# EAGLE library part MULTICOMP_460DE08C3 (library microsd)
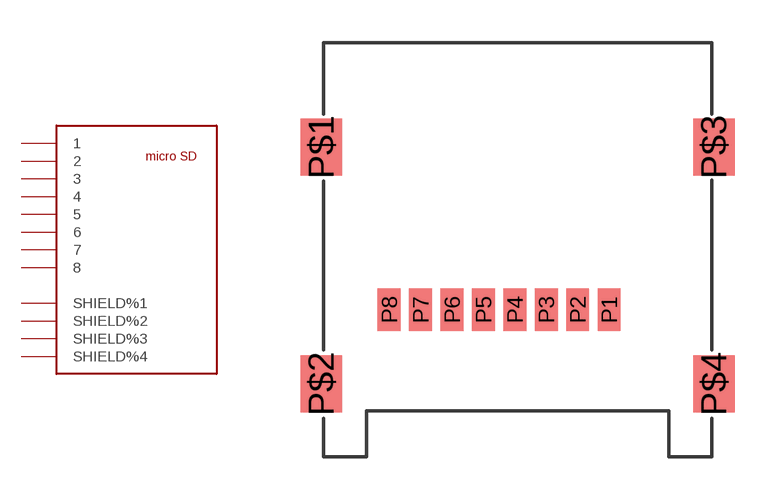
[diagram p0: symbol with the pads of 460DE08C3; footprint 460DE08C3]

Designator prefix -

## MULTICOMP_460DE08C3  [460DE08C3]
P1  1
P2  2
P3  3
P4  4
P5  5
P6  6
P7  7
P8  8
P$1  SHIELD%1
P$2  SHIELD%2
P$3  SHIELD%3
P$4  SHIELD%4

## Footprint 460DE08C3 (pad centres in mm)
smd 0.8 x 1.5: P1 10,5.15; P2 8.9,5.15; P3 7.8,5.15; P4 6.7,5.15; P5 5.6,5.15; P6 4.5,5.15; P7 3.4,5.15; P8 2.3,5.15
smd 1.45 x 2: P$1 -0.075,10.85; P$2 -0.075,2.55; P$3 13.675,10.85; P$4 13.675,2.55